# EAGLE library part V23037-A0005-A101 (library Ham Radio)
RELAY horizontal, 1 x switch, 5 A/300 V DC, 250 V AC, Siemens
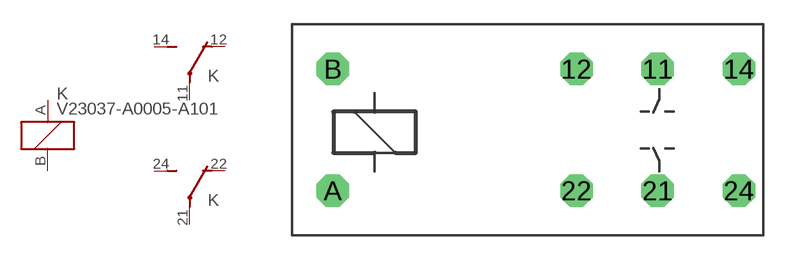
[diagram p5: symbol with the pads of V23037-A0005-A101; footprint V23037-A0005-A101]

Designator prefix K; gates 1=RELAY 2=S_RELAY G$1=S_RELAY

## V23037-A0005-A101  [V23037-A0005-A101]
11  2:P  pas
12  2:O  pas
14  2:S  pas
21  G$1:P  pas
22  G$1:O  pas
24  G$1:S  pas
A  1:A  pas
B  1:B  pas

## Footprint V23037-A0005-A101 (pad centres in mm)
RELAY horizontal, 1 x switch, 5 A/300 V DC, 250 V AC, Siemens
drill 1 pad 2 octagon: 11 9.8,3.9; 12 4.8,3.9; 14 14.8,3.9; 21 9.8,-3.6; 22 4.8,-3.6; 24 14.8,-3.6; A -10.2,-3.6; B -10.2,3.9